# Altium footprint library MMBT3904T.PcbLib: 1 footprints
Each footprint in its own frame and in the unit in brackets; x right, y up, seen from the top. Pads: shape width x height; smd on the part's side, far side on the other; paste and mask are expansions set on the pad; w line width, h text height; cw(c..) or ccw(c..) is an arc to the next point about the centre after c.
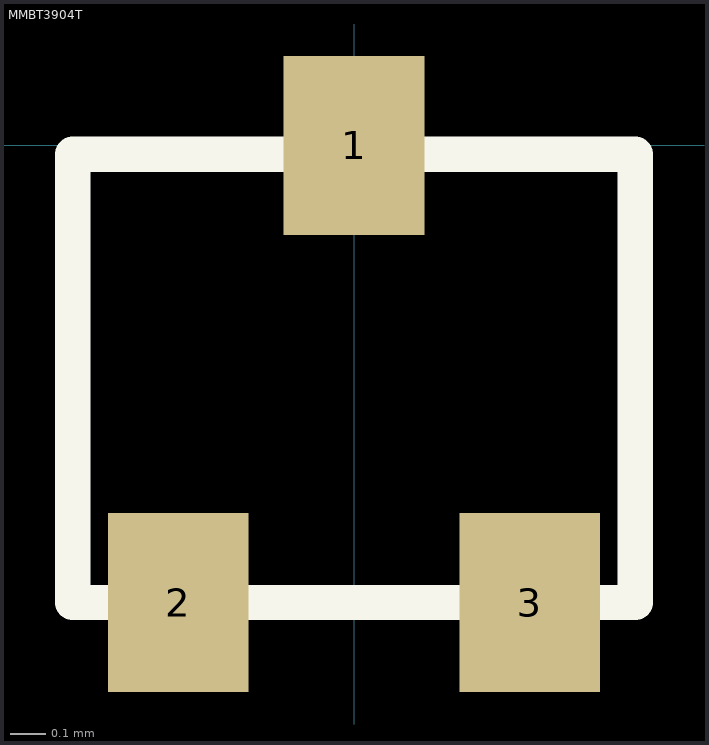
[diagram p0: the footprint, top view; thin cyan lines are the x and y axes]

## MMBT3904T [mm] "NPN"
pads (3):
  rect 0.4x0.51 smd: 1(0,0) 2(-0.5,-1.3) 3(0.5,-1.3)
Top Overlay:
  lines w0.1: -0.8,-1.3 -0.8,-0.025 0.8,-0.025 0.8,-1.3 -0.8,-1.3